# Altium schematic symbol library IQS213A-80000008-MSR.SchLib: 1 symbol
Pins are listed as number, name and electrical type; pins without a type are passive.

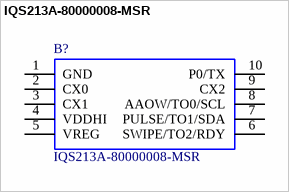
[diagram p0: symbol IQS213A-80000008-MSR]

## IQS213A-80000008-MSR
designator B?
Capacitive Touch Sensors 3 Ch Capacitive Touch/Swipe Function; Manufacturer_Name: Azoteq; Geometry.Height: 1.05mm; Manufacturer_Part_Number: IQS213A-80000008-MSR; RS Part Number: *; RS Price/Stock: *; Arrow Part Number: IQS213A-80000008-MSR; Arrow Price/Stock: *; Datasheet Link: https://componentsearchengine.com/Datasheets/1/IQS213A-80000008-MSR.pdf
footprint SOP50P490X105-10N
pins: 1 GND, 2 CX0, 3 CX1, 4 VDDHI, 5 VREG, 6 SWIPE/TO2/RDY, 7 PULSE/TO1/SDA, 8 AAOW/TO0/SCL, 9 CX2, 10 P0/TX